# Altium footprint library Arduino_PcbLib1.PcbLib: 27 footprints (part 1 of 2)
Each footprint in its own frame and in the unit in brackets; x right, y up, seen from the top. Pads: shape width x height; smd on the part's side, far side on the other; paste and mask are expansions set on the pad; w line width, h text height; cw(c..) or ccw(c..) is an arc to the next point about the centre after c.
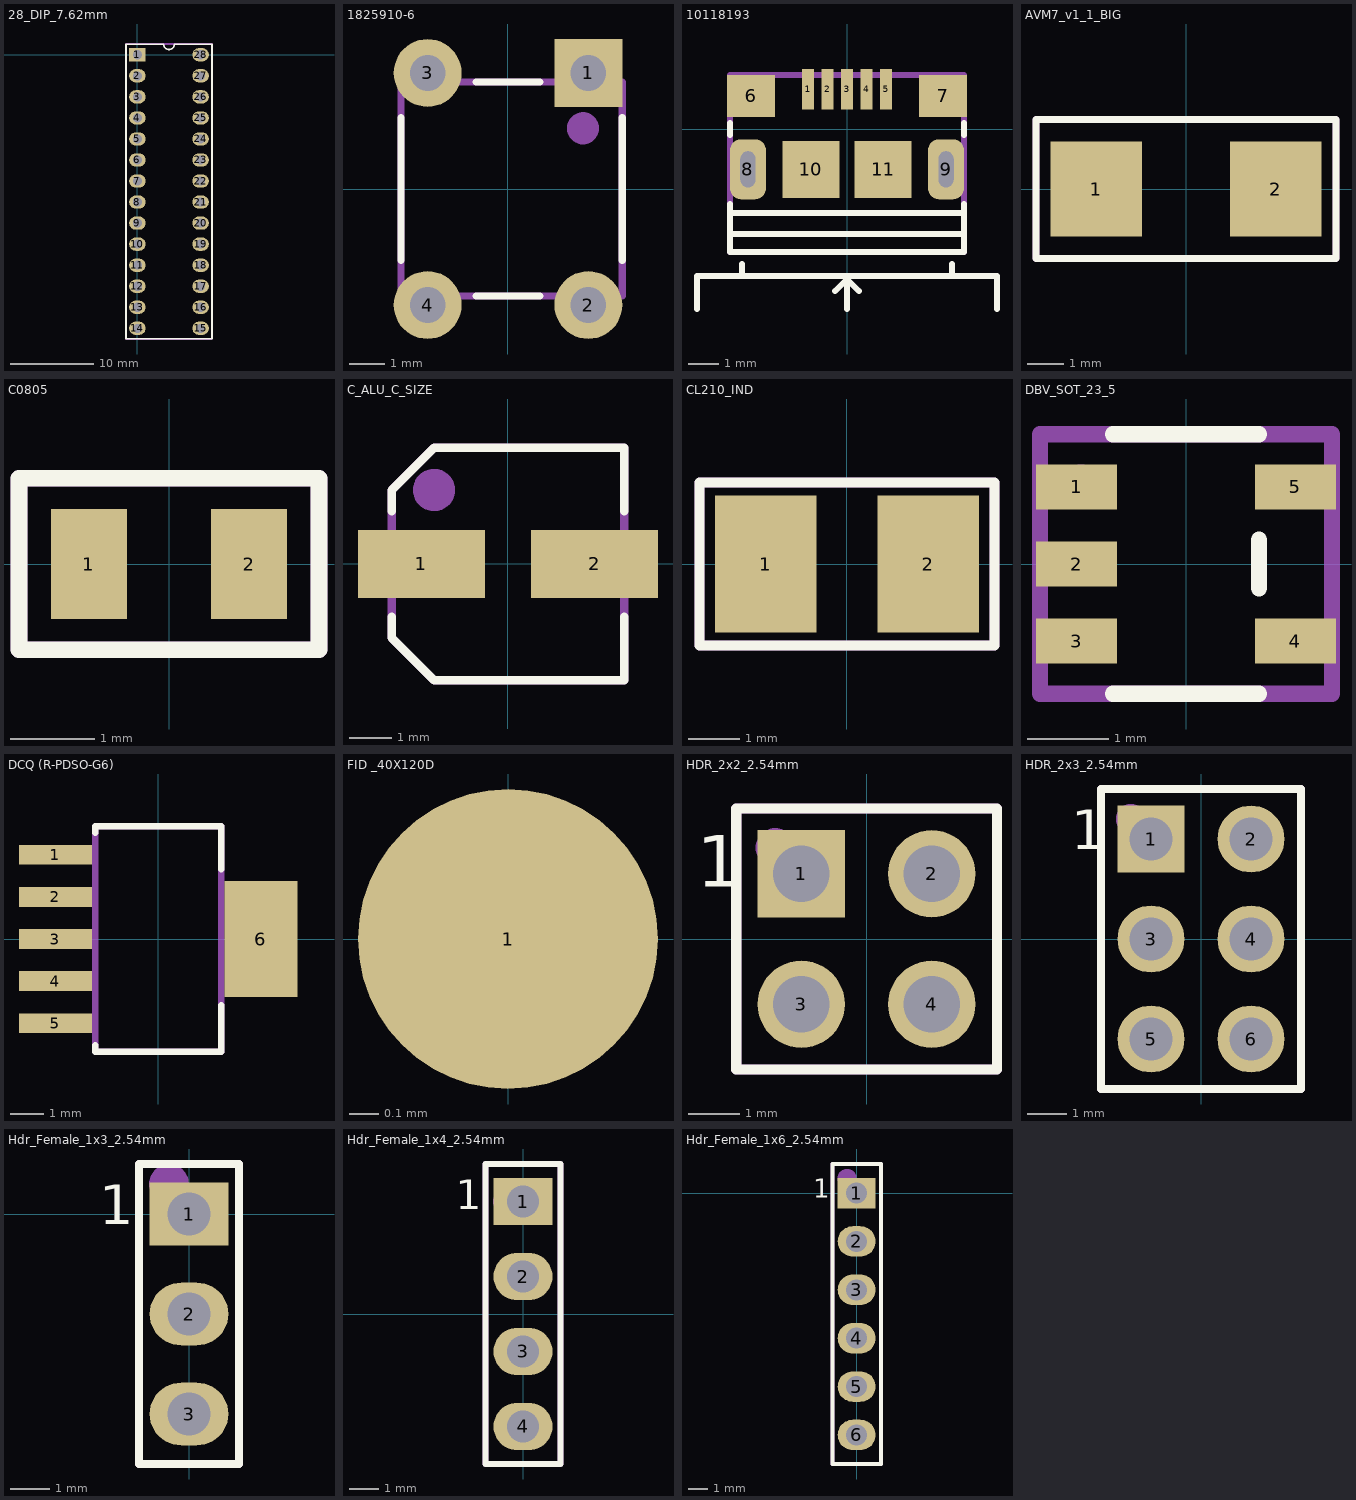
[diagram p0: the footprints below, top view; thin cyan lines are the x and y axes]

## 28_DIP_7.62mm [mm]
pads (28):
  rect 2x1.6 hole 1.1: 1(0,0)
  oval 2x1.6 hole 1.1: 2(0,-2.54) 3(0,-5.08) 4(0,-7.62) 5(0,-10.16) 6(0,-12.7) 7(0,-15.24) 8(0,-17.78) 9(0,-20.32) 10(0,-22.86) 11(0,-25.4) 12(0,-27.94) 13(0,-30.48) 14(0,-33.02) 15(7.62,-33.02) 16(7.62,-30.48) 17(7.62,-27.94) 18(7.62,-25.4) 19(7.62,-22.86) 20(7.62,-20.32) 21(7.62,-17.78) 22(7.62,-15.24) 23(7.62,-12.7) 24(7.62,-10.16) 25(7.62,-7.62) 26(7.62,-5.08) 27(7.62,-2.54) 28(7.62,0)
Top Overlay:
  lines w0.2: -1.39,1.27 -1.39,-34.29 9.01,-34.29 9.01,1.27 4.445,1.27 cw(c3.81,1.27) 3.175,1.27 ; -1.39,1.29 3.175,1.29
Mechanical 29 (Mech29):
  circle w0.5: c0,0 r0.237
  lines w0.254: -1.39,-34.31 -1.39,1.29 9.01,1.29 9.01,-34.21 8.91,-34.31 -1.39,-34.31
  text ".Designator" at 5.01,-22.51 h3
3D body "User Library-28 pin dip-2.step": height 7.85, standoff 1.63, extent -0.127,-34.46 7.747,1.481

## 28_DIP_7.62mm_SOCKET [mm]
3D body "1-390261-9.stp": height 5, standoff -3.1, extent -5,-17.78 5,17.78

## 1825910-6 [mm]
pads (4):
  rect 1.9x1.9 hole 1: 1(2.25,3.25)
  round 1.9 hole 1: 2(2.25,-3.25) 3(-2.25,3.25) 4(-2.25,-3.25)
Top Overlay:
  lines w0.2: -3,-2 -3,2 ; -0.9,-3 0.9,-3 ; -0.9,3 0.9,3 ; 3.2,-2 3.2,2
Mechanical 29 (Mech29):
  circle w0.5: c2.1,1.7 r0.2
  lines w0.2: -3,-3 -3,3 3.2,3 3.2,-3 -3,-3
3D body "User Library-FSM4JLH(1825910-5).step": height 5, standoff -3.51, extent -2.995,-3.898 2.995,3.9

## 10118193 [mm]
pads (11):
  rect 0.4x1.35 smd mask+0.05: 1(-1.3,1.338) 2(-0.65,1.338) 3(0,1.338) 4(0.65,1.338) 5(1.3,1.338)
  rect 1.6x1.4 smd: 6(-3.2,1.112) 7(3.2,1.112)
  rrect60% 1.2x2 hole 0.5 slot 1.2 at 90 deg: 8(-3.3,-1.338) 9(3.3,-1.338)
  rect 1.9x1.9 smd mask+0.05: 10(-1.2,-1.338) 11(1.2,-1.338)
Top Overlay:
  lines w0.2: -5,-6 -5,-4.9 5,-4.9 5,-6 ; -3.9,-3.5 3.9,-3.5 ; -3.9,-2.8 3.9,-2.8 ; -3.9,-2.5 -3.9,-4.1 3.9,-4.1 3.9,-2.5 ; -3.9,-0.2 -3.9,0.2 ; -3.5,-4.9 -3.5,-4.5 ; -0.4,-5.4 0,-5 ; 0,-6 0,-4.9 0,-5 ; 0.4,-5.4 0,-5 ; 3.5,-4.9 3.5,-4.5 ; 3.9,-0.2 3.9,0.2
Mechanical 29 (Mech29):
  lines w0.2: -3.9,-4.1 -3.9,-3.5 -3.9,1.8 3.9,1.8 3.9,-4.1 -3.9,-4.1
  text ".Designator" at -1.1,-1.5 h1.52
3D body "10118193-0001lfc.stp": height 2.87, standoff -0.73, extent -3.928,-4.088 3.928,1.573

## AVM7_v1_1_BIG [mm]
pads (2):
  rect 2.5x2.6 smd: 1(-2.45,0) 2(2.45,0)
Top Overlay:
  lines w0.2: -4.1,-1.9 4.1,-1.9 4.1,1.9 -4.1,1.9 -4.1,-1.9
Mechanical 29 (Mech29):
  lines w0.2: -4.1,-1.9 4.1,-1.9 4.1,1.9 -4.1,1.9 -4.1,-1.9
  text ".Designator" at 0.1,-0.3 h1.52
3D body: height 1.45, standoff 1.4, extent -1.9,-1.5 2.001,1.5
3D body "ABM7.STEP": height 1.41, standoff 0.01, extent -2.947,-1.753 3.048,1.752

## C0805 [mm]
pads (2):
  rect 0.9x1.3 smd: 1(-0.95,0) 2(0.95,0)
Top Overlay:
  lines w0.2: -1.778,-1.016 1.778,-1.016 1.778,1.016 -1.778,1.016 -1.778,0 -1.778,-1.016
Mechanical 29 (Mech29):
  lines w0.2: -1.778,-1.016 -1.778,1.016 1.778,1.016 1.778,-1.016 -1.778,-1.016
  text ".Designator" at -0.762,-0.508 h0.6
3D body "User Library-Chip Capacitor2.step": height 1.37, standoff 0.51, extent -0.8,-0.4 0.8,0.4
3D body "User Library-Chip Capacitor2.step": height 0.87, standoff 0.01, extent -0.8,-0.4 0.8,0.4
3D body "User Library-Chip Capacitor2.step": height 0.87, standoff 0.01, extent -0.8,-0.4 0.8,0.4

## C_ALU_C_SIZE [mm]
pads (2):
  rect 3x1.6 smd: 1(-2.05,0) 2(2.05,0)
Top Overlay:
  lines w0.2: -2.75,-1.25 -2.75,-1.75 -1.75,-2.75 2.75,-2.75 2.75,-1.25 ; -2.75,1.25 -2.75,1.75 -1.75,2.75 2.75,2.75 2.75,1.25
Mechanical 29 (Mech29):
  circle w0.5: c-1.75,1.75 r0.25
  lines w0.2: -2.75,-1.75 -1.75,-2.75 2.75,-2.75 2.75,2.75 -1.75,2.75 -2.75,1.75 -2.75,1.25 -2.75,-1.75
  text ".Designator" at -0.25,0 h1.3
3D body "User Library-capacitor size C.step": height 5.41, standoff -0.01, extent -2.95,-2.55 2.95,2.75

## CL210_IND [mm]
pads (2):
  rect 2x2.7 smd: 1(-1.6,0) 2(1.6,0)
Top Overlay:
  lines w0.2: -2.9,-1.6 2.9,-1.6 2.9,1.6 -2.9,1.6 -2.9,-1.6
Mechanical 29 (Mech29):
  lines w0.2: -2.9,-1.6 2.9,-1.6 2.9,1.6 -2.9,1.6 -2.9,-1.6
  text ".Designator" at -1.9,-0.2 h1
3D body: height 2.7, standoff 0, extent -1.35,-1.25 1.3,1.25
3D body: height 2.7, standoff 0, extent 1.3,-1.25 1.6,1.25
3D body: height 2.7, standoff 0, extent -1.65,-1.25 -1.35,1.25

## DBV_SOT_23_5 [mm]
pads (5):
  rect 1x0.55 smd: 1(-1.35,0.95) 2(-1.35,0) 3(-1.35,-0.95) 4(1.35,-0.95) 5(1.35,0.95)
Top Overlay:
  lines w0.2: -0.9,-1.6 0.9,-1.6 ; -0.9,1.6 0.9,1.6 ; 0.9,-0.3 0.9,0.3
Mechanical 29 (Mech29):
  circle w0.254: c-1.3,1 r0.1
  lines w0.2: -1.8,-1.6 1.8,-1.6 1.8,1.6 -1.8,1.6 -1.8,-1.6
  text ".Designator" at -1.2,-0.8 h0.6
3D body "User Library-TPS79333DBVR.step": height 1.61, standoff -0.01, extent -1.513,-1.525 1.514,1.525

## DCQ (R-PDSO-G6) [mm]
pads (6):
  rect 2.2x0.6 smd: 1(-3.1,2.54) 2(-3.1,1.27) 3(-3.1,0) 4(-3.1,-1.27) 5(-3.1,-2.54)
  rect 2.2x3.5 smd: 6(3.1,0)
Top Overlay:
  lines w0.2: -1.9,-3.2 -1.9,-3.4 1.9,-3.4 1.9,-2 ; -1.9,3.2 -1.9,3.4 1.9,3.4 1.9,2.1
Mechanical 29 (Mech29):
  lines w0.2: -1.9,-3.4 -1.9,3.4 1.9,3.4 1.9,-3.4 -1.9,-3.4
  text ".Designator" at -1.1,0.2 h1.5
3D body "User Library-TPS73701DCQ.step": height 1.79, standoff -0.01, extent -3.63,-3.275 3.63,3.275

## FID _40X120D [mil]
pads (1):
  round 40 smd paste-40 mask+40: 1(0,0)

## HDR_2x2_2.54mm [mm]
pads (4):
  rect 1.7x1.7 hole 1.1: 1(-1.27,1.27)
  round 1.7 hole 1.1: 2(1.27,1.27) 3(-1.27,-1.27) 4(1.27,-1.27)
Top Overlay:
  lines w0.2: -0.635,2.54 2.54,2.54 2.54,-2.54 -2.54,-2.54 -2.54,2.54 0.635,2.54
  text "1" at -3.302,1.016 h1
Mechanical 29 (Mech29):
  circle w0.508: c-1.778,1.778 r0.127
  lines w0.2: -2.54,-2.54 2.54,-2.54 2.54,2.54 -2.54,2.54 -2.54,-2.54
  text ".Designator" at 0.254,-0.254 h1.52
3D body "961204-6404-XX.stp": height 7.5, standoff -3.8, extent -2.5,-2.54 2.5,2.54

## HDR_2x3_2.54mm [mm]
pads (6):
  rect 1.7x1.7 hole 1.1: 1(-1.27,2.54)
  round 1.7 hole 1.1: 2(1.27,2.54) 3(-1.27,0) 4(1.27,0) 5(-1.27,-2.54) 6(1.27,-2.54)
Top Overlay:
  lines w0.2: -0.635,3.81 2.54,3.81 2.54,-3.81 -2.54,-3.81 -2.54,3.81 0.635,3.81
  text "1" at -3.302,2.286 h1
Mechanical 29 (Mech29):
  circle w0.508: c-1.778,3.048 r0.127
  lines w0.2: -2.54,-3.81 2.54,-3.81 2.54,3.81 -2.54,3.81 -2.54,-3.81
  text ".Designator" at 0.127,-4.699 h1.52
3D body "961206-6404-XX.stp": height 8.01, standoff -3.29, extent -2.5,-3.81 2.5,3.81

## Hdr_Female_1x3_2.54mm [mm]
pads (3):
  rect 2x1.6 hole 1.1: 1(0,0)
  oval 2x1.6 hole 1.1: 2(0,-2.54) 3(0,-5.08)
Top Overlay:
  lines w0.2: -1.27,-6.35 1.27,-6.35 1.27,1.27 -1.27,1.27 -1.27,-6.35
  text "1" at -2.286,-0.254 h1
Mechanical 29 (Mech29):
  circle w0.5: c-0.508,0.762 r0.254
  lines w0.2: -1.27,-6.35 1.27,-6.35 1.27,1.27 -1.27,1.27 -1.27,-6.35
  text ".Designator" at 0.508,-4.064 h1.52
3D body "User Library-1x3 TH Pitch 2_54mm (1).step": height 9.5, standoff -3.2, extent -1.27,-6.35 1.27,1.27

## Hdr_Female_1x4_2.54mm [mm]
pads (4):
  rect 2x1.6 hole 1.1: 1(0,3.81)
  oval 2x1.6 hole 1.1: 2(0,1.27) 3(0,-1.27) 4(0,-3.81)
Top Overlay:
  lines w0.2: -1.27,-5.08 -1.27,5.08 1.27,5.08 1.27,-5.08 -1.27,-5.08
  text "1" at -2.286,3.556 h1
Mechanical 29 (Mech29):
  circle w0.5: c-0.508,3.81 r0.254
  lines w0.2: -1.27,-5.08 -1.27,5.08 1.27,5.08 1.27,-5.08 -1.27,-5.08
  text ".Designator" at 0.762,-4.318 h1.52
3D body "User Library-1x4 TH Pitch 2_54mm.STEP": height 8.96, standoff -3.74, extent -1.27,-5.08 1.27,5.08

## Hdr_Female_1x6_2.54mm [mm]
pads (6):
  rect 2x1.6 hole 1.1: 1(0,0)
  oval 2x1.6 hole 1.1: 2(0,-2.54) 3(0,-5.08) 4(0,-7.62) 5(0,-10.16) 6(0,-12.7)
Top Overlay:
  lines w0.2: -1.27,-14.224 1.27,-14.224 1.27,1.524 -1.27,1.524 -1.27,-14.224
  text "1" at -2.286,-0.254 h1
Mechanical 29 (Mech29):
  circle w0.5: c-0.508,0.762 r0.254
  lines w0.2: -1.27,-14.224 1.27,-14.224 1.27,1.524 -1.27,1.524 -1.27,-14.224
  text ".Designator" at 0.762,-13.208 h1.52
3D body "m20-7820646_asm.stp": height 8.51, standoff -2.99, extent -1.25,-14.17 1.25,1.47